# Altium footprint library TexasInstruments.PcbLib: 4 footprints
Each footprint in its own frame and in the unit in brackets; x right, y up, seen from the top. Pads: shape width x height; smd on the part's side, far side on the other; paste and mask are expansions set on the pad; w line width, h text height; cw(c..) or ccw(c..) is an arc to the next point about the centre after c.
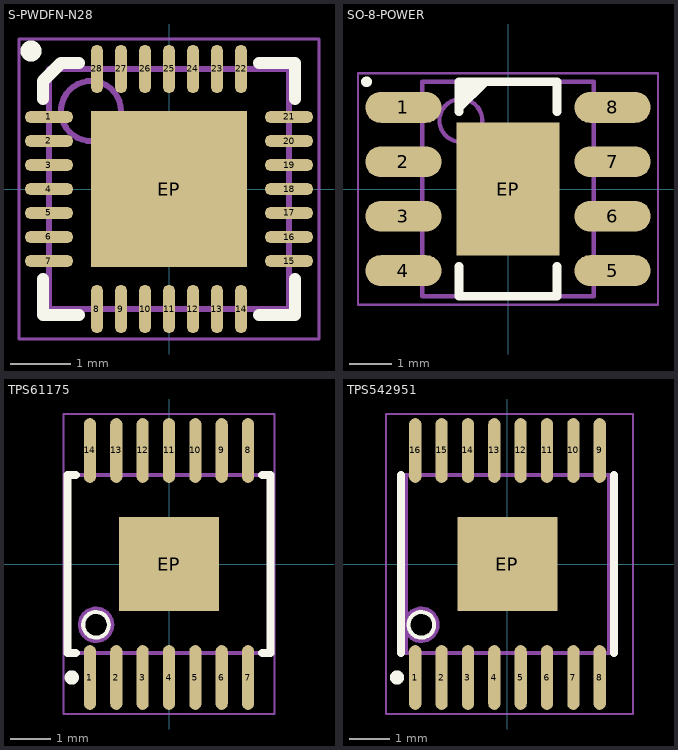
[diagram p0: the footprints below, top view; thin cyan lines are the x and y axes]

## S-PWDFN-N28 [mm] "bq2477x"
height 1
pads (29):
  oval 0.8x0.2 smd paste+0 mask+0.05: 1(-2,1.2) 2(-2,0.8) 3(-2,0.4) 4(-2,0) 5(-2,-0.4) 6(-2,-0.8) 7(-2,-1.2) 15(2,-1.2) 16(2,-0.8) 17(2,-0.4) 18(2,0) 19(2,0.4) 20(2,0.8) 21(2,1.2)
  oval 0.2x0.8 smd paste+0 mask+0.05: 8(-1.2,-2) 9(-0.8,-2) 10(-0.4,-2) 11(0,-2) 12(0.4,-2) 13(0.8,-2) 14(1.2,-2) 22(1.2,2) 23(0.8,2) 24(0.4,2) 25(0,2) 26(-0.4,2) 27(-0.8,2) 28(-1.2,2)
  rect 2.6x2.6 smd paste-1.575 mask+0.05: EP(0,0)
Top Overlay:
  circle w0.25: c-2.3,2.3 r0.05
  lines w0.2: -2.1,-1.5 -2.1,-2.1 -1.5,-2.1 ; -2.1,1.5 -2.1,1.8 -1.8,2.1 -1.5,2.1 ; 1.5,-2.1 2.1,-2.1 2.1,-1.5 ; 1.5,2.1 2.1,2.1 2.1,1.5
Top Paste:
  rectangle: -1.15,-1.15 -0.15,-0.15
  region: 1.15,-1.15 1.15,-0.15 0.15,-0.15 0.15,-1.15
  region: 1.15,1.15 0.15,1.15 0.15,0.15 1.15,0.15
  region: -1.15,1.15 -1.15,0.15 -0.15,0.15 -0.15,1.15
Mechanical 13:
  circle w0.1: c-1.3,1.3 r0.5
  lines w0.1: -2,-2 2,-2 2,2 -2,2 -2,-2
Mechanical 15:
  lines w0.05: -2.5,-2.5 2.5,-2.5 2.5,2.5 -2.5,2.5 -2.5,-2.5
3D body "User Library-QFN28-0_4.STEP": height 0.75, standoff 0, extent -2,-2 2,2

## SO-8-POWER [mm] "SOIC, 8-Leads, Body 4.90x3.90mm, Pitch 1.27mm, IPC Medium Density"
height 1.75
pads (9):
  oval 1.78x0.72 smd: 1(-2.44,1.905) 2(-2.44,0.635) 3(-2.44,-0.635) 4(-2.44,-1.905) 5(2.44,-1.905) 6(2.44,-0.635) 7(2.44,0.635) 8(2.44,1.905)
  rect 2.4x3.1 smd mask+0: EP(0,0)
Top Overlay:
  circle w0.25: c-3.3,2.5 r0
  region: -0.45,2.45 -1.1,1.8 -1.1,2.45
  lines w0.2: -1.143,-1.8 -1.143,-2.5 1.143,-2.5 1.143,-1.8 ; -1.143,1.8 -1.143,2.5 1.143,2.5 1.143,1.8
Mechanical 13:
  circle w0.1: c-1.1,1.6 r0.5
  lines w0.1: -2,-2.5 -2,2.5 2,2.5 2,-2.5 -2,-2.5
Mechanical 15:
  lines w0.05: -3.5,-2.7 -3.5,2.7 3.5,2.7 3.5,-2.7 -3.5,-2.7
  text ".Designator" at -3.4,1.6 h1.5
3D body "User Library-SO8-1.step": height 1.75, standoff 0, extent -3.1,-2.5 3.1,2.5

## TPS61175 [mm] "14-HTSSOP"
height 1
pads (15):
  oval 0.3x1.6 smd paste+0 mask+0.05: 1(-1.95,-2.8) 2(-1.3,-2.8) 3(-0.65,-2.8) 4(0,-2.8) 5(0.65,-2.8) 6(1.3,-2.8) 7(1.95,-2.8) 8(1.95,2.8) 9(1.3,2.8) 10(0.65,2.8) 11(0,2.8) 12(-0.65,2.8) 13(-1.3,2.8) 14(-1.95,2.8)
  rect 2.46x2.31 smd paste-1.575 mask+0: EP(0,0)
Top Overlay:
  circle w0.1: c-1.8,-1.5 r0.316
  circle w0.25: c-2.4,-2.8 r0.05
  lines w0.2: -2.3,-2.2 -2.5,-2.2 -2.5,0 -2.5,2.2 -2.3,2.2 ; 2.3,-2.2 2.5,-2.2 2.5,0 2.5,2.2 2.3,2.2
Top Paste:
  rectangle: -1.15,-1.15 -0.15,-0.15
  region: 1.15,-1.15 1.15,-0.15 0.15,-0.15 0.15,-1.15
  region: 1.15,1.15 0.15,1.15 0.15,0.15 1.15,0.15
  region: -1.15,1.15 -1.15,0.15 -0.15,0.15 -0.15,1.15
Mechanical 13:
  circle w0.1: c-1.8,-1.5 r0.4
  lines w0.1: -2.5,-2.2 2.5,-2.2 2.5,2.2 -2.5,2.2 -2.5,-2.2
Mechanical 15:
  lines w0.05: -2.6,-3.7 -2.6,3.7 2.6,3.7 2.6,-3.7 -2.6,-3.7
3D body "User Library-TPS61500PWPR.step": height 1.2, standoff 0, extent -2.55,-3.2 2.55,3.2

## TPS542951 [mm] "16-HTSSOP"
height 1
pads (17):
  oval 0.3x1.6 smd paste+0 mask+0.05: 1(-2.275,-2.8) 2(-1.625,-2.8) 3(-0.975,-2.8) 4(-0.325,-2.8) 5(0.325,-2.8) 6(0.975,-2.8) 7(1.625,-2.8) 8(2.275,-2.8) 9(2.275,2.8) 10(1.625,2.8) 11(0.975,2.8) 12(0.325,2.8) 13(-0.325,2.8) 14(-0.975,2.8) 15(-1.625,2.8) 16(-2.275,2.8)
  rect 2.46x2.31 smd paste-1.575 mask+0: EP(0,0)
Top Overlay:
  circle w0.1: c-2.125,-1.5 r0.316
  circle w0.25: c-2.725,-2.8 r0.05
  lines w0.2: -2.625,-2.2 -2.625,-0.2 -2.625,2.2 ; 2.625,-2.2 2.625,0.2 2.625,2.2
Top Paste:
  rectangle: -1.15,-1.15 -0.15,-0.15
  region: 1.15,-1.15 1.15,-0.15 0.15,-0.15 0.15,-1.15
  region: 1.15,1.15 0.15,1.15 0.15,0.15 1.15,0.15
  region: -1.15,1.15 -1.15,0.15 -0.15,0.15 -0.15,1.15
Mechanical 13:
  circle w0.1: c-2.125,-1.5 r0.4
  lines w0.1: -2.5,-2.2 2.5,-2.2 2.5,2.2 -2.5,2.2 -2.5,-2.2
Mechanical 15:
  lines w0.05: -3,-3.7 -3,3.7 3.1,3.7 3.1,-3.7 -3,-3.7
3D body "User Library-TSSOP-16-1.step": height 1.1, standoff 0, extent -2.5,-3.2 2.5,3.2